# Altium footprint library UFL_CONN.PCBLIB: 1 footprints
Each footprint in its own frame and in the unit in brackets; x right, y up, seen from the top. Pads: shape width x height; smd on the part's side, far side on the other; paste and mask are expansions set on the pad; w line width, h text height; cw(c..) or ccw(c..) is an arc to the next point about the centre after c.
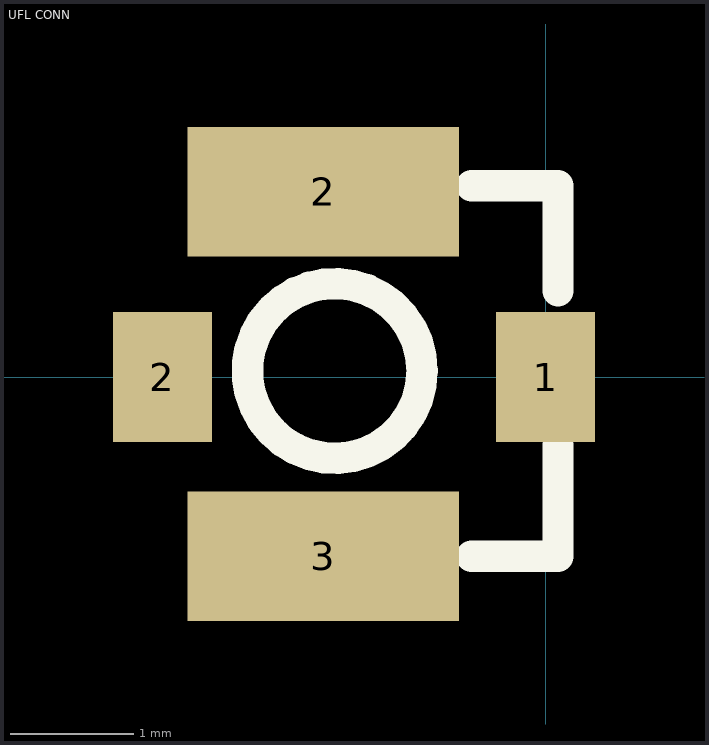
[diagram p0: the footprint, top view; thin cyan lines are the x and y axes]

## UFL CONN [mm] "UFL IPEX SMD CONNECTOR"
pads (4):
  rect 0.8x1.05 smd: 1(0,0) 2(-3.102,0)
  rect 2.2x1.05 smd: 2(-1.8,1.5) 3(-1.8,-1.45)
Top Overlay:
  circle w0.254: c-1.707,0.05 r0.707
  lines w0.254: -0.6,-1.45 0.1,-1.45 0.1,-0.55 ; -0.6,1.55 0.1,1.55 0.1,0.7
3D body: height 1.25, standoff -0.01, extent -3.1,-1.5 0,1.5